# Altium integrated library PMIC - LED Drivers.IntLib: 14 symbols
Pins are listed as number, name and electrical type; pins without a type are passive.

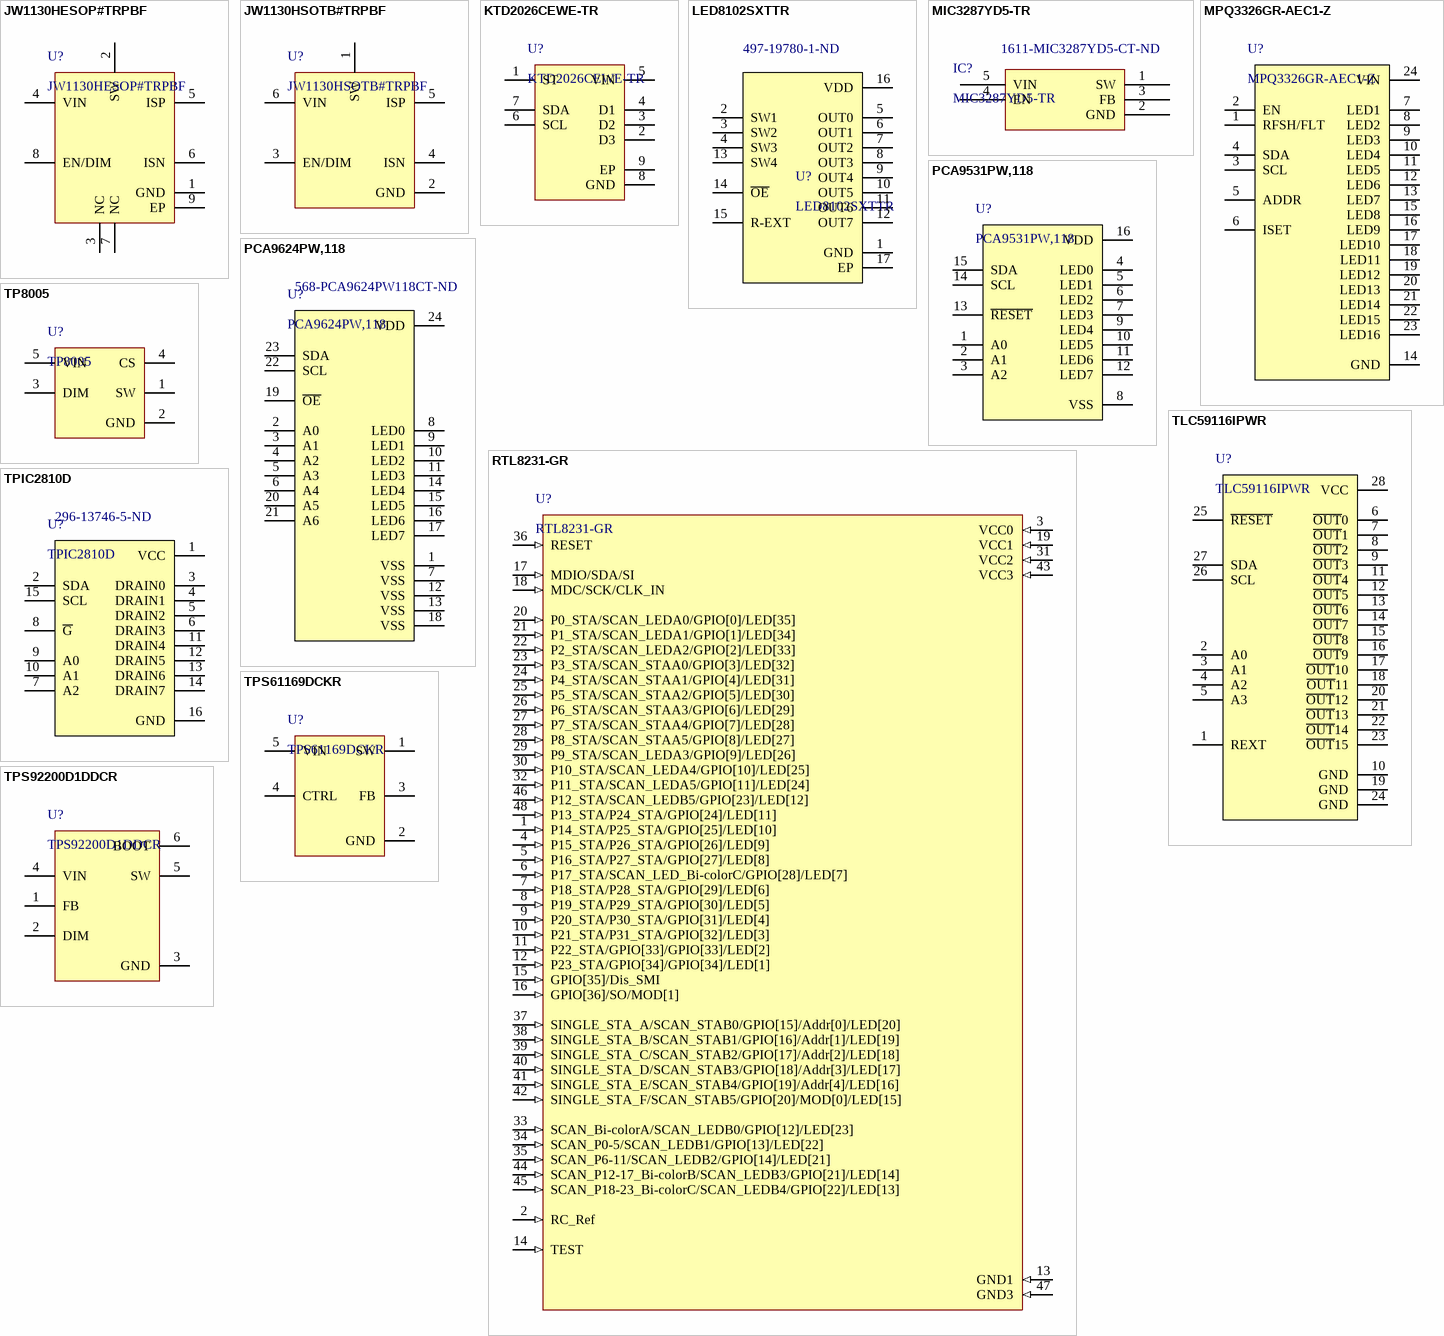
[diagram p0: symbols JW1130HESOP#TRPBF to TPS92200D1DDCR]

## JW1130HESOP#TRPBF
designator U?
footprint SOIC127P600X170_HS-9N (SOIC, 8-Leads, Body 4,90x3,90mm, Pitch 1,27mm, Thermal Pad 3,25x2,36mm, IPC Medium Density)
pins: 1 GND, 2 SW, 3 NC, 4 VIN, 5 ISP, 6 ISN, 7 NC, 8 EN/DIM, 9 EP

## JW1130HSOTB#TRPBF
designator U?
footprint SOT95P280X110-6N (SOT23, 6-Leads, Body 2,90x2,80mm, Pitch 0,95mm, IPC Medium Density)
pins: 1 SW, 2 GND, 3 EN/DIM, 4 ISN, 5 ISP, 6 VIN

## KTD2026CEWE-TR
designator U?
LED Lighting Drivers 3-Channel RGB Driver, I2C, 1.5x1.5mm TDFN; Manufacturer: Kinetic Technologies; Supplier: Digikey; Supplier Part Number: 2763-KTD2026CEWE-TRCT-ND; Manufacturer Part Number: KTD2026CEWE-TR; RoHS: No; Stock: 7993; Pricing: 1=0,67, 10=0,587, 25=0,5512, 100=0,4497, 250=0,41772, 500=0,35552, 1000=0,28442 (USD)
footprint SON40P150X55_HS-9N (SON, 8-Leads, Body 1,50x1,50mm, Pitch 0,40mm, Thermal Pad 1,20x0,58mm, IPC Medium Density)
pins: 1 ST, 2 D3, 3 D2, 4 D1, 5 VIN, 6 SCL, 7 SDA, 8 GND, 9 EP

## LED8102SXTTR
designator U?  Supplier Part Number 1: 497-19780-1-ND
8 Channels LED driver with direct switch control, HTSSOP16, Tape and Reel; Manufacturer: STMicroelectronics; Supplier 1: Digi-Key; Manufacturer Part Number: LED8102SXTTR; RoHS: Yes; Category: LED Drivers; Stock 1: 2475; Pricing 1: 1=1,62000, 10=1,44500, 25=1,37120, 100=1,12640, 250=1,05288, 500=0,93046, 1000=0,80850 (USD)
footprint TSOP65P640X120_HS-17N (TSOP, 16-Leads, Body 5,00x4,40mm, Pitch 0,65mm, Thermal Pad 3,20x3,20mm, IPC Medium Density)
pins: 1 GND, 2 SW1, 3 SW2, 4 SW3, 5 OUT0, 6 OUT1, 7 OUT2, 8 OUT3, 9 OUT4, 10 OUT5, 11 OUT6, 12 OUT7, 13 SW4, 14 ~{OE}, 15 R-EXT, 16 VDD, 17 EP

## MIC3287YD5-TR
designator IC?  Supplier Part Number 1: 1611-MIC3287YD5-CT-ND
IC LED DRIVER RGLTR DIM TSOT23-5; Supplier 1: Digi-Key
footprint SOT95P245X145-5N (SOT23, 5-Leads, Body 2,90x2,45mm, Pitch 0,95mm, IPC Medium Density)
pins: 1 SW, 2 GND, 3 FB, 4 EN, 5 VIN

## MPQ3326GR-AEC1-Z
designator U?
LED Driver 16-Channel 50mA PWM 24-Pin QFN; Manufacturer: Monolithic Power Systems; Supplier: Digikey; Supplier Part Number: 1589-MPQ3326GR-AEC1-ZCT-ND; Manufacturer Part Number: MPQ3326GR-AEC1-Z; RoHS: No; Category: LED Drivers; Stock: 4760; Pricing: 1=5,3, 10=3,461, 25=2,9824, 100=2,4412, 250=2,17548, 500=2,01208, 1000=1,925 (USD); ComponentLink1URL: https://datasheet.octopart.com/MPQ3326GR-AEC1-Z-Monolithic-Power-Systems-datasheet-163722115.pdf?src-supplier=Monolithic+Power+Systems; ComponentLink1Description: https://datasheet.octopart.com/MPQ3326GR-AEC1-Z-Monolithic-Power-Systems-datasheet-163722115.pdf?src-supplier=Monolithic+Power+Systems
footprint QFN45P400X400X100-24N (QFN, 24-Leads, Body 4,00x4,00mm, Pitch 0,45mm, IPC Medium Density)
pins: 1 RFSH/FLT, 2 EN, 3 SCL, 4 SDA, 5 ADDR, 6 ISET, 7 LED1, 8 LED2, 9 LED3, 10 LED4, 11 LED5, 12 LED6, 13 LED7, 14 GND, 15 LED8, 16 LED9, 17 LED10, 18 LED11, 19 LED12, 20 LED13, 21 LED14, 22 LED15, 23 LED16, 24 VIN

## PCA9531PW,118
designator U?
I2C 5 V Voltage Source LED Blinker / TAPE + REEL REEL 13" Q1 NDP RoHS Compliant: Yes; Manufacturer: NXP Semiconductors; Number of Outputs: 8; Frequency: 400kHz; Max Supply Voltage: 5.5V; Min Supply Voltage: 2.3V; Max Power Dissipation: 400mW; Output Current per Channel: 25mA; Max Supply Current: 500uA; Dimming: I²C; Supplier: Digikey; Supplier Part Number: 568-11440-1-ND; Manufacturer Part Number: PCA9531PW,118; RoHS: Yes; Category: LED Drivers; Stock: 32082; Pricing: 1=2,74, 10=2,46, 25=2,3252, 100=2,0152, 250=1,91184, 500=1,7155, 1000=1,4468 (USD); Mounting Technology: Surface Mount; Case/Package: TSSOP; Pins: 16; Min Operating Temperature: -40°C; Max Operating Temperature: 85°C; Packaging: Tape and Reel; Package Quantity: 2500; Low Level Output Current: 25mA; Power Dissipation: 400mW; Number of Segments: 8; Clock Frequency: 400kHz; Series: -; Nominal Supply Voltage: 5.5V; Supply Current: 500uA; Radiation Hardening: No; Lead Free: Lead Free; RoHS Compliant: Yes; ComponentLink1URL: https://datasheet.ciiva.com/41798/pca9531-41798984.pdf?src-supplier=Digikey; ComponentLink1Description: https://datasheet.ciiva.com/41798/pca9531-41798984.pdf?src-supplier=Digikey; ComponentLink2URL: https://datasheet.ciiva.com/3165/pca9531-3165197.pdf?src-supplier=Avnet; ComponentLink2Description: https://datasheet.ciiva.com/3165/pca9531-3165197.pdf?src-supplier=Avnet; ComponentLink3URL: https://datasheet.ciiva.com/16475/pca9531pw2c118-16475207.pdf?src-supplier=Future+Electronics; ComponentLink3Description: https://datasheet.ciiva.com/16475/pca9531pw2c118-16475207.pdf?src-supplier=Future+Electronics
footprint TSOP65P640X110-16N (TSOP, 16-Leads, Body 5,00x4,40mm, Pitch 0,65mm, IPC Medium Density)
pins: 1 A0, 2 A1, 3 A2, 4 LED0, 5 LED1, 6 LED2, 7 LED3, 8 VSS, 9 LED4, 10 LED5, 11 LED6, 12 LED7, 13 ~{RESET}, 14 SCL, 15 SDA, 16 VDD

## PCA9624PW,118
designator U?  Supplier Part Number 1: 568-PCA9624PW118CT-ND
I2C 40 V Voltage Source LED Controller / TAPE + REEL REEL 13" Q1 NDP RoHS Compliant: Yes; Manufacturer: NXP Semiconductors; Max Power Dissipation: 1.8W; Number of Outputs: 8; Frequency: 1MHz; Max Supply Voltage: 5.5V; Min Supply Voltage: 2.3V; Nominal Supply Current: 10mA; Output Voltage: 40V; Low Level Output Current: 20mA; Power Dissipation: 100mW; Supplier 1: Digi-Key; Manufacturer Part Number: PCA9624PW,118; RoHS: Yes; Category: LED Drivers; Stock 1: 12579; Pricing 1: 1=2,58000, 10=2,37500 (USD); Mount: Surface Mount; Case/Package: TSSOP; Number of Pins: 24; Contact Plating: Gold; Min Operating Temperature: -40°C; Max Operating Temperature: 85°C; Package Quantity: 2500; Packaging: Tape and Reel; Max Supply Current: 10mA; Number of Segments: 8; Series: -; Supply Current: 10mA; Radiation Hardening: No; Lead Free: Lead Free; RoHS Compliant: Yes; ComponentLink1URL: https://datasheet.ciiva.com/3165/pca9624-3165215.pdf?src-supplier=Avnet; ComponentLink1Description: https://datasheet.ciiva.com/3165/pca9624-3165215.pdf?src-supplier=Avnet; ComponentLink2URL: https://datasheet.ciiva.com/1947/pca9624-1947035.pdf?src-supplier=Digi-Key; ComponentLink2Description: https://datasheet.ciiva.com/1947/pca9624-1947035.pdf?src-supplier=Digi-Key
footprint TSOP65P640X110-24N (TSOP, 24-Leads, Body 7,80x4,40mm, Pitch 0,65mm, IPC Medium Density)
pins: 1 VSS, 2 A0, 3 A1, 4 A2, 5 A3, 6 A4, 7 VSS, 8 LED0, 9 LED1, 10 LED2, 11 LED3, 12 VSS, 13 VSS, 14 LED4, 15 LED5, 16 LED6, 17 LED7, 18 VSS, 19 ~{OE}, 20 A5, 21 A6, 22 SCL, 23 SDA, 24 VDD

## RTL8231-GR
designator U?
Manufacturer: Realtek; LCSC: C2901896; Manufacturer Part Number: RTL8231-GR
footprint TSQFP50P900X900X160-48N (TSQFP, 48-Leads, Body 7,00x7,00mm, Pitch 0,50mm, IPC Medium Density)
pins: 1 P14_STA/P25_STA/GPIO[25]/LED[10] (in), 2 RC_Ref (in), 3 VCC0 (in), 4 P15_STA/P26_STA/GPIO[26]/LED[9] (in), 5 P16_STA/P27_STA/GPIO[27]/LED[8] (in), 6 P17_STA/SCAN_LED_Bi-colorC/GPIO[28]/LED[7] (in), 7 P18_STA/P28_STA/GPIO[29]/LED[6] (in), 8 P19_STA/P29_STA/GPIO[30]/LED[5] (in), 9 P20_STA/P30_STA/GPIO[31]/LED[4] (in), 10 P21_STA/P31_STA/GPIO[32]/LED[3] (in), 11 P22_STA/GPIO[33]/GPIO[33]/LED[2] (in), 12 P23_STA/GPIO[34]/GPIO[34]/LED[1] (in), 13 GND1 (in), 14 TEST (in), 15 GPIO[35]/Dis_SMI (in), 16 GPIO[36]/SO/MOD[1] (in), 17 MDIO/SDA/SI (in), 18 MDC/SCK/CLK_IN (in), 19 VCC1 (in), 20 P0_STA/SCAN_LEDA0/GPIO[0]/LED[35] (in), 21 P1_STA/SCAN_LEDA1/GPIO[1]/LED[34] (in), 22 P2_STA/SCAN_LEDA2/GPIO[2]/LED[33] (in), 23 P3_STA/SCAN_STAA0/GPIO[3]/LED[32] (in), 24 P4_STA/SCAN_STAA1/GPIO[4]/LED[31] (in), 25 P5_STA/SCAN_STAA2/GPIO[5]/LED[30] (in), 26 P6_STA/SCAN_STAA3/GPIO[6]/LED[29] (in), 27 P7_STA/SCAN_STAA4/GPIO[7]/LED[28] (in), 28 P8_STA/SCAN_STAA5/GPIO[8]/LED[27] (in), 29 P9_STA/SCAN_LEDA3/GPIO[9]/LED[26] (in), 30 P10_STA/SCAN_LEDA4/GPIO[10]/LED[25] (in), 31 VCC2 (in), 32 P11_STA/SCAN_LEDA5/GPIO[11]/LED[24] (in), 33 SCAN_Bi-colorA/SCAN_LEDB0/GPIO[12]/LED[23] (in), 34 SCAN_P0-5/SCAN_LEDB1/GPIO[13]/LED[22] (in), 35 SCAN_P6-11/SCAN_LEDB2/GPIO[14]/LED[21] (in), 36 RESET (in), 37 SINGLE_STA_A/SCAN_STAB0/GPIO[15]/Addr[0]/LED[20] (in), 38 SINGLE_STA_B/SCAN_STAB1/GPIO[16]/Addr[1]/LED[19] (in), 39 SINGLE_STA_C/SCAN_STAB2/GPIO[17]/Addr[2]/LED[18] (in), 40 SINGLE_STA_D/SCAN_STAB3/GPIO[18]/Addr[3]/LED[17] (in), 41 SINGLE_STA_E/SCAN_STAB4/GPIO[19]/Addr[4]/LED[16] (in), 42 SINGLE_STA_F/SCAN_STAB5/GPIO[20]/MOD[0]/LED[15] (in), 43 VCC3 (in), 44 SCAN_P12-17_Bi-colorB/SCAN_LEDB3/GPIO[21]/LED[14] (in), 45 SCAN_P18-23_Bi-colorC/SCAN_LEDB4/GPIO[22]/LED[13] (in), 46 P12_STA/SCAN_LEDB5/GPIO[23]/LED[12] (in), 47 GND3 (in), 48 P13_STA/P24_STA/GPIO[24]/LED[11] (in)

## TLC59116IPWR
designator U?
16-bit Fast-Mode Plus (FM+) I2C-Bus constant-current LED sink driver 28-TSSOP -40 to 85; Manufacturer: Texas Instruments; Number of Outputs: 16; Max Supply Voltage: 5.5V; Min Supply Voltage: 3V; Output Current: 120mA; Output Voltage: 17V; Switching Frequency: 1MHz; Max Power Dissipation: 1.207W; Max Supply Current: 37mA; Low Level Output Current: 30mA; Topology: Boost; Operating Frequency: 1 MHz; Supply Current: 3.7mA; Dimming: I²C; Supplier: Digikey; Supplier Part Number: 296-23354-1-ND; Manufacturer Part Number: TLC59116IPWR; RoHS: Yes; Category: LED Drivers; Stock: 4187; Pricing: 1=2,06, 10=1,523, 25=1,3876, 100=1,2394, 250=1,16868, 500=1,12604, 1000=1,09093 (USD); Case/Package: TSSOP; Pins: 28; Weight: 0.004145oz; Min Operating Temperature: -40°C; Max Operating Temperature: 85°C; Package Quantity: 2000; Packaging: Tape and Reel; Min Input Voltage: 3V; Power Dissipation: 1.207W; Number of Segments: 16; Series: -; Output Current per Channel: 120mA; Length: 9.7mm; Width: 4.4mm; Height: 1.15mm; Radiation Hardening: No; Reach SVHC Compliant: No; Lead Free: Lead Free; RoHS Compliant: Yes; ComponentLink1URL: https://datasheet.ciiva.com/1945/tlc59116-1945665.pdf?src-supplier=Digikey; ComponentLink1Description: https://datasheet.ciiva.com/1945/tlc59116-1945665.pdf?src-supplier=Digikey; ComponentLink2URL: https://datasheet.ciiva.com/15135/getdatasheetpartid-252905-15135095.pdf?src-supplier=Verical; ComponentLink2Description: https://datasheet.ciiva.com/15135/getdatasheetpartid-252905-15135095.pdf?src-supplier=Verical; ComponentLink3URL: https://datasheet.ciiva.com/1945/tlc59116-1945666.pdf?src-supplier=Digikey; ComponentLink3Description: https://datasheet.ciiva.com/1945/tlc59116-1945666.pdf?src-supplier=Digikey; ComponentLink4URL: https://datasheet.ciiva.com/1945/tlc59116-1945667.pdf?src-supplier=Digikey; ComponentLink4Description: https://datasheet.ciiva.com/1945/tlc59116-1945667.pdf?src-supplier=Digikey; ComponentLink5URL: https://datasheet.ciiva.com/3163/tlc59116-3163789.pdf?src-supplier=Avnet; ComponentLink5Description: https://datasheet.ciiva.com/3163/tlc59116-3163789.pdf?src-supplier=Avnet; ComponentLink6URL: https://datasheet.ciiva.com/3164/tlc59116-3164046.pdf?src-supplier=Avnet; ComponentLink6Description: https://datasheet.ciiva.com/3164/tlc59116-3164046.pdf?src-supplier=Avnet; ComponentLink7URL: https://datasheet.ciiva.com/22714/1882843-22714060.pdf?src-supplier=Element14; ComponentLink7Description: https://datasheet.ciiva.com/22714/1882843-22714060.pdf?src-supplier=Element14; ComponentLink8URL: https://datasheet.ciiva.com/46420/1777605-46420907.pdf?src-supplier=Element14; ComponentLink8Description: https://datasheet.ciiva.com/46420/1777605-46420907.pdf?src-supplier=Element14
footprint TSOP65P640X120-28N (TSOP, 28-Leads, Body 9,70x4,40mm, Pitch 0,65mm, IPC Medium Density)
pins: 1 REXT, 2 A0, 3 A1, 4 A2, 5 A3, 6 ~{OUT}0, 7 ~{OUT}1, 8 ~{OUT}2, 9 ~{OUT}3, 10 GND, 11 ~{OUT}4, 12 ~{OUT}5, 13 ~{OUT}6, 14 ~{OUT}7, 15 ~{OUT}8, 16 ~{OUT}9, 17 ~{OUT}10, 18 ~{OUT}11, 19 GND, 20 ~{OUT}12, 21 ~{OUT}13, 22 ~{OUT}14, 23 ~{OUT}15, 24 GND, 25 ~{RESET}, 26 SCL, 27 SDA, 28 VCC

## TP8005
designator U?
TP8005 High-Efficiency Step-Down LED Constant Current Driver: 95% Efficiency, Automatic Temperature Compensation Control, and Wide Input Voltage Range
footprint SOT89-150P345X160-5N (SOT89, 5-Leads, Body 4,50x2,45mm, Pitch 1,50mm, Lead Span 3,5mm, IPC Medium Density)
pins: 1 SW, 2 GND, 3 DIM, 4 CS, 5 VIN

## TPIC2810D
designator U?  Supplier Part Number 1: 296-13746-5-ND
8-bit LED driver with I2C interface 16-SOIC -40 to 125; Manufacturer: Texas Instruments; Output Current: 100mA; Max Supply Voltage: 5.5V; Min Supply Voltage: 3V; Nominal Supply Current: 1mA; Number of Outputs: 8; Frequency: 2MHz; Output Voltage: 40V; Max Power Dissipation: 1.087W; Max Supply Current: 620uA; Low Level Output Current: 13mA; Power Dissipation: 217mW; Supplier 1: Digi-Key; Manufacturer Part Number: TPIC2810D; RoHS: Yes; Category: LED Drivers; Stock 1: 3112; Pricing 1: 1=1,93000, 10=1,73000, 25=1,63240, 100=1,39080, 250=1,30592, 500=1,14268, 1000=0,98560 (USD); Mount: Surface Mount; Case/Package: SOIC; Number of Pins: 16; Weight: 0.005235oz; Min Operating Temperature: -40°C; Max Operating Temperature: 125°C; Packaging: Rail/Tube; Package Quantity: 40; Min Input Voltage: 3V; Max Input Voltage: 5.5V; Switching Frequency: 2MHz; High Level Output Current: 13mA; Length: 9.9mm; Width: 3.91mm; Height: 1.58mm; Radiation Hardening: No; REACH SVHC: No SVHC; Lead Free: Lead Free; RoHS Compliant: Yes; ComponentLink1URL: https://datasheet.ciiva.com/1553/1775250-1553585.pdf?src-supplier=Digi-Key; ComponentLink1Description: https://datasheet.ciiva.com/1553/1775250-1553585.pdf?src-supplier=Digi-Key; ComponentLink2URL: https://datasheet.ciiva.com/23692/80456-23692089.pdf?src-supplier=Newark; ComponentLink2Description: https://datasheet.ciiva.com/23692/80456-23692089.pdf?src-supplier=Newark; ComponentLink3URL: https://datasheet.ciiva.com/15135/getdatasheetpartid-293988-15135107.pdf?src-supplier=Verical; ComponentLink3Description: https://datasheet.ciiva.com/15135/getdatasheetpartid-293988-15135107.pdf?src-supplier=Verical; ComponentLink4URL: https://datasheet.ciiva.com/23692/1775250-23692219.pdf?src-supplier=Newark; ComponentLink4Description: https://datasheet.ciiva.com/23692/1775250-23692219.pdf?src-supplier=Newark; ComponentLink5URL: https://datasheet.ciiva.com/1497/1775250-1497608.pdf?src-supplier=Element14; ComponentLink5Description: https://datasheet.ciiva.com/1497/1775250-1497608.pdf?src-supplier=Element14; ComponentLink6URL: https://datasheet.ciiva.com/1497/1775250-1497609.pdf?src-supplier=Element14; ComponentLink6Description: https://datasheet.ciiva.com/1497/1775250-1497609.pdf?src-supplier=Element14; ComponentLink7URL: https://datasheet.ciiva.com/3163/slis109a-3163800.pdf?src-supplier=Avnet; ComponentLink7Description: https://datasheet.ciiva.com/3163/slis109a-3163800.pdf?src-supplier=Avnet
footprint SOP127P600X175-16N (SOP, 16-Leads, Body 9,90x3,90mm, Pitch 1,27mm, IPC Medium Density)
pins: 1 VCC, 2 SDA, 3 DRAIN0, 4 DRAIN1, 5 DRAIN2, 6 DRAIN3, 7 A2, 8 ~{G}, 9 A0, 10 A1, 11 DRAIN4, 12 DRAIN5, 13 DRAIN6, 14 DRAIN7, 15 SCL, 16 GND

## TPS61169DCKR
designator U?
Tape & Reel (TR) TPS61169 Step-Up (Boost) PWM led driver 2mm 1.8A Switch 5.5V 1.2MHz; Manufacturer: Texas Instruments; Manufacturer Lifecycle Status: ACTIVE; Max Junction Temperature (Tj): 125°C; Max Output current: 2.4A; Max Output Voltage: 38V; Min Input Voltage: 2.7V; Nominal Input Voltage (DC): 3.6V; Nominal Supply Current: 300µA; Number of Channels: 1; Output Current: 400mA; Output Type: Frequency; Supplier: DigiKey; Supplier Part Number: 296-40821-1-ND; Manufacturer Part Number: TPS61169DCKR; RoHS: Compliant; Category: LED Drivers; Pricing: 1=0,96, 10=0,688, 25=0,6208, 100=0,5466, 250=0,51112, 500=0,48976, 1000=0,47216 (USD); Case/Package: SC; Contact Plating: Gold; Dimming: PWM; Frequency: 1.2MHz; Height: 1.1mm; Lead Free: Lead Free; Length: 2mm; Lifecycle Status: Production; Max Supply Voltage: 5.5V; Max Input Voltage (DC): 5.5V; Max Operating Temperature: 85°C; Min Operating Temperature: -40°C; Min Output Voltage: 2.7V; Min Supply Voltage: 2.7V; Mounting Technology: Surface Mount; Number of Outputs: 1; Pins: 5; Output Current per Channel: 1.8A; Output Voltage: 38V; Packaging: Cut Tape; REACH SVHC: No; Schedule B: 8542390000, 8542390000|8542390000|8542390000|8542390000|8542390000; Switching Frequency: 1.2MHz; Thickness: 900µm; Topology: Boost; Weight: 19.986414mg; Width: 1.25mm; ComponentLink1URL: https://sigma.octopart.com:443/182282879/technical_drawing/Texas-Instruments-TPS61169DCKR.pdf?src-supplier=Texas+Instruments; ComponentLink1Description: https://sigma.octopart.com:443/182282879/technical_drawing/Texas-Instruments-TPS61169DCKR.pdf?src-supplier=Texas+Instruments; ComponentLink2URL: https://octopart.com:443/opatz8j6/c1?t=tqTGcjV1GRFFDnWdKDUptDs2sKA9qV04uTMdCAjWHf5UwKfi6Ye8-aLd0b_yjwN1Xt7O-YsFsEJSUxAxRubh9S6Bd_ZTFMELZauDw_X6uhP1vVZQFSLFvWkAc8QTrOAhgM4tU7ERvEAqMnjYWiAJS7KpT77mrasWiI9e4BhnAfN6wlX6HSlmuKK0dOr3kOk_auXrm5UB-_xWniST4A5nCi1WEU6HSMIkPBA1Xx7V9Sfohl30NiCjCeORHefJgrE4BB5U667gPfvfuziU_gjVGfZYA-76OqOpHS50ZJpFeeRLb6irQDry0_oUU-EkEJDPqnygmZp5MM9hdxZt90wiJVvB7b9GkfRe6HW0hwX4RBQ0x-72fdhOtX7FKq-zXGjlftR_RHGN&src-supplier=Texas+Instruments; ComponentLink2Description: https://octopart.com:443/opatz8j6/c1?t=tqTGcjV1GRFFDnWdKDUptDs2sKA9qV04uTMdCAjWHf5UwKfi6Ye8-aLd0b_yjwN1Xt7O-YsFsEJSUxAxRubh9S6Bd_ZTFMELZauDw_X6uhP1vVZQFSLFvWkAc8QTrOAhgM4tU7ERvEAqMnjYWiAJS7KpT77mrasWiI9e4BhnAfN6wlX6HSlmuKK0dOr3kOk_auXrm5UB-_xWniST4A5nCi1WEU6HSMIkPBA1Xx7V9Sfohl30NiCjCeORHefJgrE4BB5U667gPfvfuziU_gjVGfZYA-76OqOpHS50ZJpFeeRLb6irQDry0_oUU-EkEJDPqnygmZp5MM9hdxZt90wiJVvB7b9GkfRe6HW0hwX4RBQ0x-72fdhOtX7FKq-zXGjlftR_RHGN&src-supplier=Texas+Instruments; ComponentLink3URL: https://sigma.octopart.com:443/179129132/technical_drawing/Texas-Instruments-TPS61169DCKR.pdf?src-supplier=Texas+Instruments; ComponentLink3Description: https://sigma.octopart.com:443/179129132/technical_drawing/Texas-Instruments-TPS61169DCKR.pdf?src-supplier=Texas+Instruments; ComponentLink4URL: https://sigma.octopart.com:443/176385615/technical_drawing/Texas-Instruments-TPS61169DCKR.pdf?src-supplier=Texas+Instruments; ComponentLink4Description: https://sigma.octopart.com:443/176385615/technical_drawing/Texas-Instruments-TPS61169DCKR.pdf?src-supplier=Texas+Instruments; ComponentLink5URL: https://sigma.octopart.com:443/169406035/technical_drawing/Texas-Instruments-TPS61169DCKR.pdf?src-supplier=Texas+Instruments; ComponentLink5Description: https://sigma.octopart.com:443/169406035/technical_drawing/Texas-Instruments-TPS61169DCKR.pdf?src-supplier=Texas+Instruments; ComponentLink6URL: https://datasheet.octopart.com:443/TPS61169DCKR-Texas-Instruments-datasheet-41218611.pdf?src-supplier=Texas+Instruments; ComponentLink6Description: https://datasheet.octopart.com:443/TPS61169DCKR-Texas-Instruments-datasheet-41218611.pdf?src-supplier=Texas+Instruments; ComponentLink7URL: https://datasheet.octopart.com:443/TPS61169DCKR-Texas-Instruments-datasheet-33026236.pdf?src-supplier=Texas+Instruments; ComponentLink7Description: https://datasheet.octopart.com:443/TPS61169DCKR-Texas-Instruments-datasheet-33026236.pdf?src-supplier=Texas+Instruments; ComponentLink8URL: https://sigma.octopart.com:443/49249326/technical_drawing/Texas-Instruments-TPS61169DCKR.pdf?src-supplier=Texas+Instruments; ComponentLink8Description: https://sigma.octopart.com:443/49249326/technical_drawing/Texas-Instruments-TPS61169DCKR.pdf?src-supplier=Texas+Instruments; ComponentLink9URL: https://datasheet.octopart.com:443/TPS61169DCKR-Texas-Instruments-datasheet-62288384.pdf?src-supplier=Newark; ComponentLink9Description: https://datasheet.octopart.com:443/TPS61169DCKR-Texas-Instruments-datasheet-62288384.pdf?src-supplier=Newark; ComponentLink10URL: https://datasheet.octopart.com:443/TPS61169DCKR-Texas-Instruments-datasheet-62292603.pdf?src-supplier=Farnell; ComponentLink10Description: https://datasheet.octopart.com:443/TPS61169DCKR-Texas-Instruments-datasheet-62292603.pdf?src-supplier=Farnell; ComponentLink11URL: https://datasheet.octopart.com:443/TPS61169DCKR-Texas-Instruments-datasheet-164420425.pdf?src-supplier=SHENGYU+ELECTRONICS; ComponentLink11Description: https://datasheet.octopart.com:443/TPS61169DCKR-Texas-Instruments-datasheet-164420425.pdf?src-supplier=SHENGYU+ELECTRONICS; ComponentLink12URL: https://datasheet.octopart.com:443/TPS61169DCKR-Texas-Instruments-datasheet-159118188.pdf?src-supplier=LCSC; ComponentLink12Description: https://datasheet.octopart.com:443/TPS61169DCKR-Texas-Instruments-datasheet-159118188.pdf?src-supplier=LCSC; ComponentLink13URL: https://datasheet.octopart.com:443/TPS61169DCKR-Texas-Instruments-datasheet-140571914.pdf?src-supplier=Arrow.cn; ComponentLink13Description: https://datasheet.octopart.com:443/TPS61169DCKR-Texas-Instruments-datasheet-140571914.pdf?src-supplier=Arrow.cn; ComponentLink14URL: https://datasheet.octopart.com:443/TPS61169DCKR-Texas-Instruments-datasheet-137316104.pdf?src-supplier=Future+Electronics; ComponentLink14Description: https://datasheet.octopart.com:443/TPS61169DCKR-Texas-Instruments-datasheet-137316104.pdf?src-supplier=Future+Electronics; ComponentLink15URL: http://sigma.octopart.com:80/reach_statement/Texas-Instruments-company-64.pdf?src-supplier=Compliance+Statements; ComponentLink15Description: http://sigma.octopart.com:80/reach_statement/Texas-Instruments-company-64.pdf?src-supplier=Compliance+Statements; ComponentLink16URL: http://sigma.octopart.com:80/conflict_mineral_statement/Texas-Instruments-company-63.pdf?src-supplier=Compliance+Statements; ComponentLink16Description: http://sigma.octopart.com:80/conflict_mineral_statement/Texas-Instruments-company-63.pdf?src-supplier=Compliance+Statements
footprint SOT65P210X110-5N (SOT23, 5-Leads, Body 2,00x2,10mm, Pitch 0,65mm, IPC Medium Density)
pins: 1 SW, 2 GND, 3 FB, 4 CTRL, 5 VIN

## TPS92200D1DDCR
designator U?
4-V to 30-V input voltage, 1.5-A output current, synchronous buck LED driver with dimming options 6-SOT-23-THIN -40...; Manufacturer: Texas Instruments; Supplier: Digikey; Supplier Part Number: 296-TPS92200D1DDCRCT-ND; Manufacturer Part Number: TPS92200D1DDCR; RoHS: Yes; Category: LED Drivers; Stock: 6747; Pricing: 1=1,06, 10=0,767, 25=0,6924, 100=0,6108, 250=0,57184, 500=0,54834, 1000=0,52902 (USD)
footprint SOT95P280X110-6N (SOT23, 6-Leads, Body 2,90x2,80mm, Pitch 0,95mm, IPC Medium Density)
pins: 1 FB, 2 DIM, 3 GND, 4 VIN, 5 SW, 6 BOOT